# Altium footprint library ___WIP___.PcbLib: 17 footprints (part 1 of 2)
Each footprint in its own frame and in the unit in brackets; x right, y up, seen from the top. Pads: shape width x height; smd on the part's side, far side on the other; paste and mask are expansions set on the pad; w line width, h text height; cw(c..) or ccw(c..) is an arc to the next point about the centre after c.
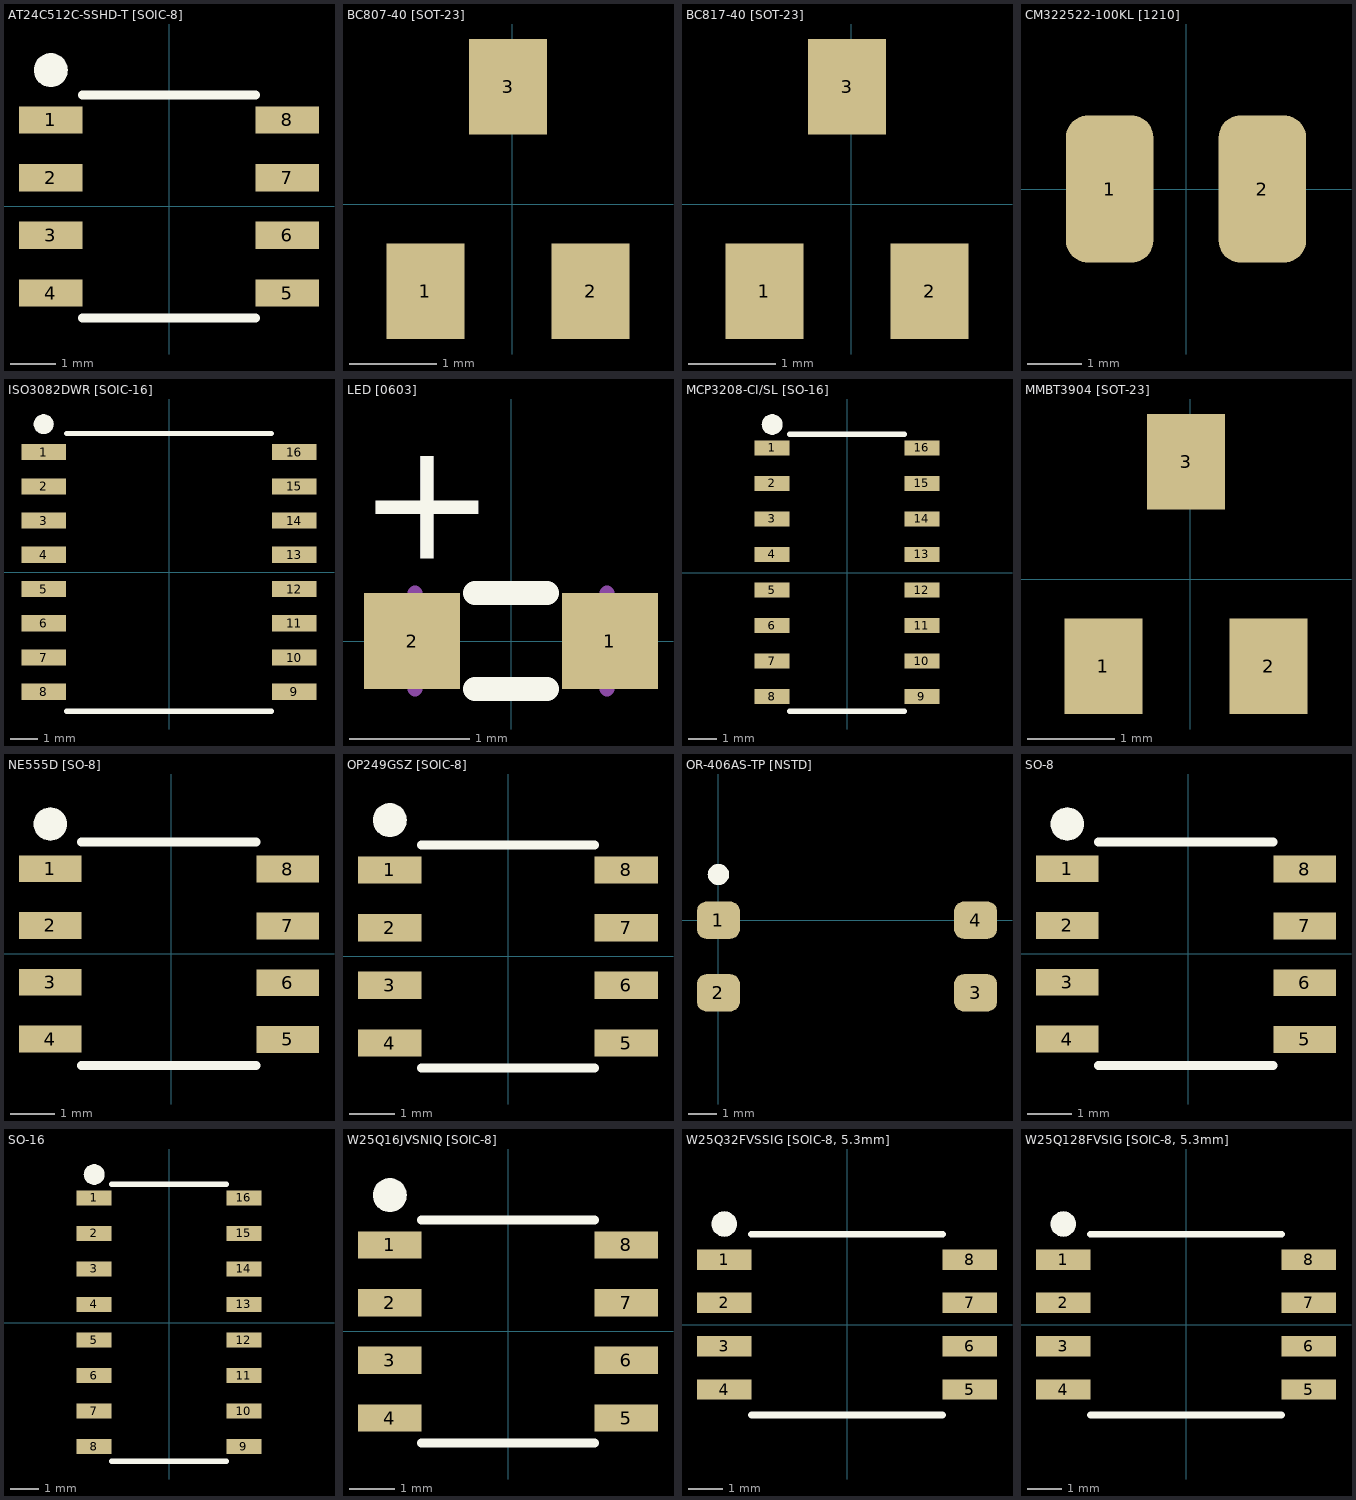
[diagram p0: the footprints below, top view; thin cyan lines are the x and y axes]

## AT24C512C-SSHD-T [SOIC-8] [mm]
pads (9):
  rect 1.4x0.6 smd: 1(-2.6,1.905) 2(-2.6,0.635) 3(-2.6,-0.635) 4(-2.6,-1.905) 5(2.6,-1.905) 6(2.6,-0.635) 7(2.6,0.635) 8(2.6,1.905)
  round 0.75 on Top Overlay: ""(-2.6,3)
Top Overlay:
  lines w0.2: -1.9,-2.45 1.9,-2.45 ; -1.9,2.45 1.9,2.45
3D body "AT24C512C-SSHD-T_SOIC_8.STEP": height 1.75, standoff 0, extent -3,-2.45 3,2.45

## BC807-40 [SOT-23] [mm]
pads (3):
  rect 0.9x1.1 smd: 1(-1,-1) 2(0.9,-1) 3(-0.05,1.35)
3D body "MMBT3904.STEP": height 1.11, standoff 0, extent -1.51,-1.035 1.41,1.335

## BC817-40 [SOT-23] [mm]
pads (3):
  rect 0.9x1.1 smd: 1(-1,-1) 2(0.9,-1) 3(-0.05,1.35)
3D body "MMBT3904.STEP": height 1.11, standoff 0, extent -1.51,-1.035 1.41,1.335

## CM322522-100KL [1210] [mm]
pads (2):
  rrect50% 1.6x2.7 smd: 1(-1.4,0) 2(1.4,0)
3D body "cm322522-100kl_1210.stp": height 2.3, standoff 0, extent -1.679,-1.25 1.679,1.25

## ISO3082DWR [SOIC-16] [mm]
pads (17):
  rect 1.65x0.6 smd: 1(-4.65,4.46) 2(-4.65,3.19) 3(-4.65,1.92) 4(-4.65,0.65) 5(-4.65,-0.62) 6(-4.65,-1.89) 7(-4.65,-3.16) 8(-4.65,-4.43) 9(4.65,-4.43) 10(4.65,-3.16) 11(4.65,-1.89) 12(4.65,-0.62) 13(4.65,0.65) 14(4.65,1.92) 15(4.65,3.19) 16(4.65,4.46)
  round 0.75 on Top Overlay: ""(-4.65,5.5)
Top Overlay:
  lines w0.2: -3.8,-5.15 3.8,-5.15 ; -3.8,5.15 3.8,5.15
3D body "ISO3082DW_SOIC_16.STEP": height 2.65, standoff 0, extent -5.15,-5.15 5.15,5.15

## LED [0603] [mm]
pads (2):
  rect 0.8x0.8 smd: 1(0.825,0) 2(-0.825,0)
Top Overlay:
  lines w0.2: -0.3,-0.4 0.3,-0.4 ; -0.3,0.4 0.3,0.4
  text "+" at -1.275,0.683 h1
Mechanical 13:
  lines w0.127: -0.8,-0.4 -0.8,0.4 ; 0.8,-0.4 0.8,0.4
3D body "LED 0603.STEP": height 1.1, standoff 0, extent -0.8,-0.4 0.8,0.4

## MCP3208-CI/SL [SO-16] [mm]
pads (17):
  rect 1.25x0.55 smd: 1(-2.675,4.46) 2(-2.675,3.19) 3(-2.675,1.92) 4(-2.675,0.65) 5(-2.675,-0.62) 6(-2.675,-1.89) 7(-2.675,-3.16) 8(-2.675,-4.43) 9(2.675,-4.43) 10(2.675,-3.16) 11(2.675,-1.89) 12(2.675,-0.62) 13(2.675,0.65) 14(2.675,1.92) 15(2.675,3.19) 16(2.675,4.46)
  round 0.75 on Top Overlay: ""(-2.675,5.3)
Top Overlay:
  lines w0.2: -2.05,-4.95 2.05,-4.95 ; -2.05,4.95 2.05,4.95
3D body "MCP3208-CI_SL_SOIC_16.STEP": height 1.75, standoff 0, extent -3,-4.95 3,4.95

## MMBT3904 [SOT-23] [mm]
pads (3):
  rect 0.9x1.1 smd: 1(-1,-1) 2(0.9,-1) 3(-0.05,1.35)
3D body "MMBT3904.STEP": height 1.11, standoff 0, extent -1.51,-1.035 1.41,1.335

## NE555D [SO-8] [mm]
pads (9):
  rect 1.4x0.6 smd: 1(-2.7,1.9) 2(-2.7,0.63) 3(-2.7,-0.64) 4(-2.7,-1.91) 5(2.61,-1.92) 6(2.61,-0.65) 7(2.61,0.62) 8(2.61,1.89)
  round 0.75 on Top Overlay: ""(-2.7,2.9)
Top Overlay:
  lines w0.2: -2,-2.5 1.9,-2.5 ; -2,2.5 1.9,2.5
3D body "NE555D_SO_8.STEP": height 1.75, standoff 0, extent -3,-2.45 3,2.45

## OP249GSZ [SOIC-8] [mm]
pads (9):
  rect 1.4x0.6 smd: 1(-2.6,1.905) 2(-2.6,0.635) 3(-2.6,-0.635) 4(-2.6,-1.905) 5(2.6,-1.905) 6(2.6,-0.635) 7(2.6,0.635) 8(2.6,1.905)
  round 0.75 on Top Overlay: ""(-2.6,3)
Top Overlay:
  lines w0.2: -1.9,-2.45 1.9,-2.45 ; -1.9,2.45 1.9,2.45
3D body "OP249GSZ_SOIC_8.STEP": height 1.75, standoff 0, extent -3,-2.45 3,2.45

## OR-406AS-TP [NSTD] [mm]
pads (5):
  rrect50% 1.5x1.3 smd: 1(0,0) 2(0,-2.54) 3(9,-2.54) 4(9,0)
  round 0.75 on Top Overlay: ""(0,1.6)
3D body "OR-406AS-TP_NSTD.STEP": height 3.65, standoff 0.01, extent -0.58,-3.49 9.58,1.09

## SO-8 [mm]
pads (9):
  rect 1.4x0.6 smd: 1(-2.7,1.9) 2(-2.7,0.63) 3(-2.7,-0.64) 4(-2.7,-1.91) 5(2.61,-1.92) 6(2.61,-0.65) 7(2.61,0.62) 8(2.61,1.89)
  round 0.75 on Top Overlay: ""(-2.7,2.9)
Top Overlay:
  lines w0.2: -2,-2.5 1.9,-2.5 ; -2,2.5 1.9,2.5
3D body "NE555D_SO_8.STEP": height 1.75, standoff 0, extent -3,-2.45 3,2.45

## SO-16 [mm]
pads (17):
  rect 1.25x0.55 smd: 1(-2.675,4.46) 2(-2.675,3.19) 3(-2.675,1.92) 4(-2.675,0.65) 5(-2.675,-0.62) 6(-2.675,-1.89) 7(-2.675,-3.16) 8(-2.675,-4.43) 9(2.675,-4.43) 10(2.675,-3.16) 11(2.675,-1.89) 12(2.675,-0.62) 13(2.675,0.65) 14(2.675,1.92) 15(2.675,3.19) 16(2.675,4.46)
  round 0.75 on Top Overlay: ""(-2.675,5.3)
Top Overlay:
  lines w0.2: -2.05,-4.95 2.05,-4.95 ; -2.05,4.95 2.05,4.95
3D body "MCP3208-CI_SL_SOIC_16.STEP": height 1.75, standoff 0, extent -3,-4.95 3,4.95

## W25Q16JVSNIQ [SOIC-8] [mm]
pads (9):
  rect 1.4x0.6 smd: 1(-2.6,1.905) 2(-2.6,0.635) 3(-2.6,-0.635) 4(-2.6,-1.905) 5(2.6,-1.905) 6(2.6,-0.635) 7(2.6,0.635) 8(2.6,1.905)
  round 0.75 on Top Overlay: ""(-2.6,3)
Top Overlay:
  lines w0.2: -1.9,-2.45 1.9,-2.45 ; -1.9,2.45 1.9,2.45
3D body "W25Q16JVSNIQ_SOIC_8.STEP": height 1.75, standoff 0, extent -3,-2.425 3,2.425

## W25Q32FVSSIG [SOIC-8, 5.3mm] [mm]
pads (9):
  rect 1.6x0.6 smd: 1(-3.6,1.905) 2(-3.6,0.635) 3(-3.6,-0.635) 4(-3.6,-1.905) 5(3.6,-1.905) 6(3.6,-0.635) 7(3.6,0.635) 8(3.6,1.905)
  round 0.75 on Top Overlay: ""(-3.6,2.95)
Top Overlay:
  lines w0.2: -2.8,-2.65 2.8,-2.65 ; -2.8,2.65 2.8,2.65
3D body "W25Q32FVSSIG_SOIC_8_5_3.STEP": height 2.16, standoff 0, extent -3.95,-2.64 3.95,2.64

## W25Q128FVSIG [SOIC-8, 5.3mm] [mm]
pads (9):
  rect 1.6x0.6 smd: 1(-3.6,1.905) 2(-3.6,0.635) 3(-3.6,-0.635) 4(-3.6,-1.905) 5(3.6,-1.905) 6(3.6,-0.635) 7(3.6,0.635) 8(3.6,1.905)
  round 0.75 on Top Overlay: ""(-3.6,2.95)
Top Overlay:
  lines w0.2: -2.8,-2.65 2.8,-2.65 ; -2.8,2.65 2.8,2.65
3D body "W25Q128FVSIG_SOIC_8_5_3.STEP": height 2.16, standoff 0, extent -3.95,-2.64 3.95,2.64